# EAGLE library part ADP3303 (library harrison)
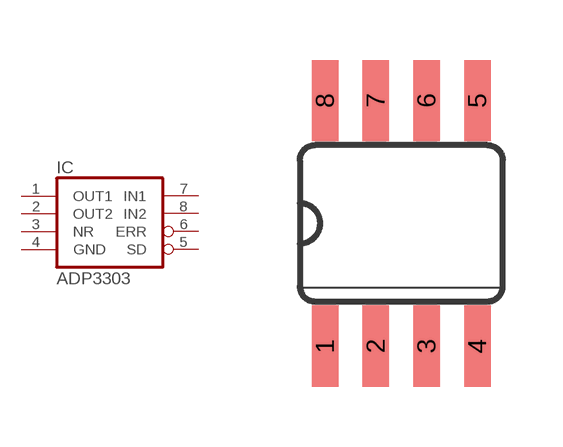
[diagram p18: symbol with the pads of SO08; footprint SO08]

Designator prefix IC

## ADP3303A  [SO08]
1  OUT1  pwr
2  OUT2  pwr
3  NR
4  GND  pwr
5  SD  in
6  ERR  out
7  IN1  pwr
8  IN2  pwr

## Footprint SO08 (pad centres in mm)
smd 0.66 x 2.032: 1 -1.905,-3.073; 2 -0.635,-3.073; 3 0.635,-3.073; 4 1.905,-3.073; 5 1.905,3.073; 6 0.635,3.073; 7 -0.635,3.073; 8 -1.905,3.073